# Altium footprint library DRV8701_DualMotorDriver V1.1.PcbLib: 84 footprints (part 4 of 6)
Each footprint in its own frame and in the unit in brackets; x right, y up, seen from the top. Pads: shape width x height; smd on the part's side, far side on the other; paste and mask are expansions set on the pad; w line width, h text height; cw(c..) or ccw(c..) is an arc to the next point about the centre after c.
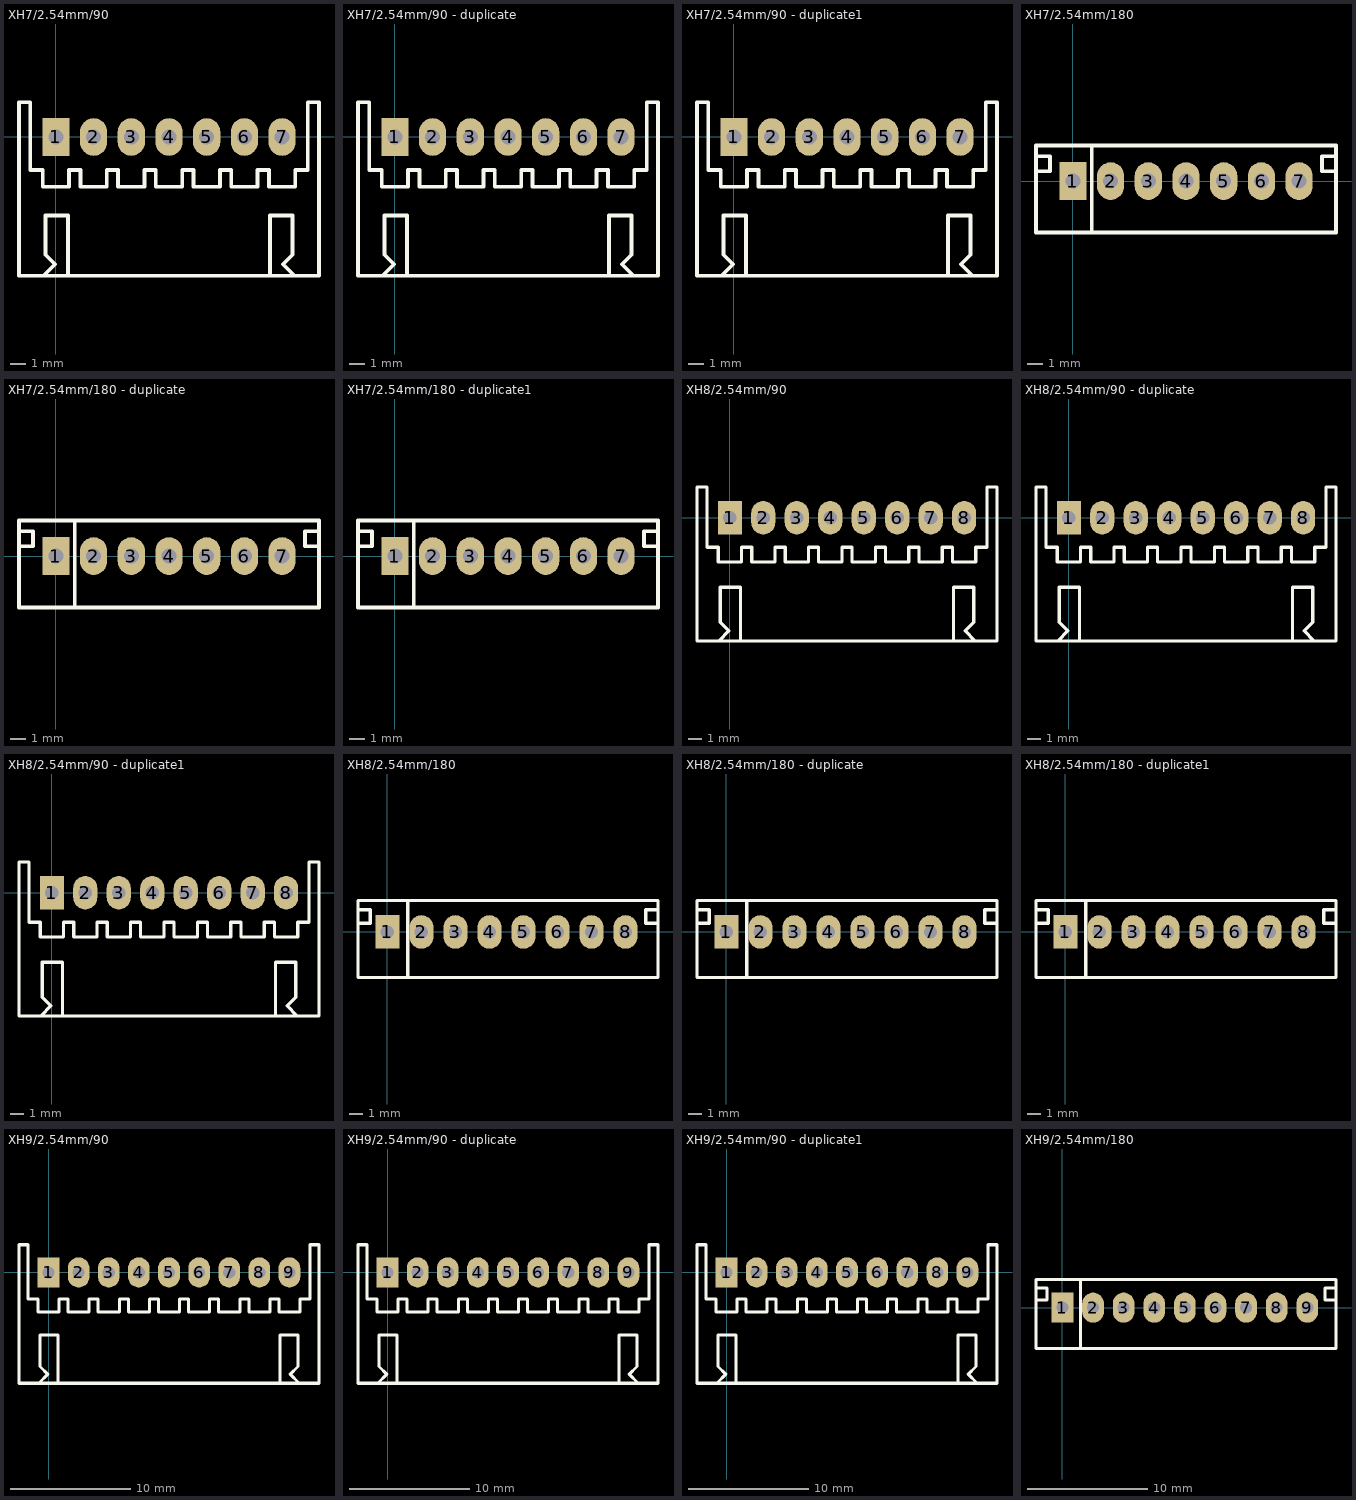
[diagram p3: the footprints below, top view; thin cyan lines are the x and y axes]

## XH7/2.54mm/90 [mm]
pads (7):
  rect 1.8x2.5 hole 1: 1(0,0)
  oval 1.8x2.5 hole 1: 2(2.5,0) 3(5,0) 4(7.5,0) 5(10,0) 6(12.5,0) 7(15,0)
Top Overlay:
  lines w0.254: -0.79,-9.172 -0.064,-8.445 -0.7,-7.809 -0.7,-5.2 0.8,-5.2 0.8,-9.2 ; 14.2,-9.2 14.2,-5.2 15.7,-5.2 15.7,-7.809 15.064,-8.445 15.79,-9.172 ; -2.45,-9.2 17.45,-9.2 17.45,2.3 16.7,2.3 16.7,-2.2 15.875,-2.2 15.875,-3.3 14.125,-3.3 14.125,-2.2 13.375,-2.2 13.375,-3.3 11.625,-3.3 11.625,-2.2 10.875,-2.2 10.875,-3.3 9.125,-3.3 9.125,-2.2 8.375,-2.2 8.375,-3.3 6.625,-3.3 6.625,-2.2 5.875,-2.2 5.875,-3.3 4.125,-3.3 4.125,-2.2 3.375,-2.2 3.375,-3.3 1.625,-3.3 1.625,-2.2 0.875,-2.2 0.875,-3.3 -0.875,-3.3 -0.875,-2.2 -1.7,-2.2 -1.7,2.3 -2.45,2.3 -2.45,-9.2
3D body "JST-S7B-XH-A.STEP": height 6.1, standoff -3.4, extent -2.45,-9.2 17.45,2.3

## XH7/2.54mm/90 - duplicate [mm]
pads (7):
  rect 1.8x2.5 hole 1: 1(0,0)
  oval 1.8x2.5 hole 1: 2(2.5,0) 3(5,0) 4(7.5,0) 5(10,0) 6(12.5,0) 7(15,0)
Top Overlay:
  lines w0.254: -0.79,-9.172 -0.064,-8.445 -0.7,-7.809 -0.7,-5.2 0.8,-5.2 0.8,-9.2 ; 14.2,-9.2 14.2,-5.2 15.7,-5.2 15.7,-7.809 15.064,-8.445 15.79,-9.172 ; -2.45,-9.2 17.45,-9.2 17.45,2.3 16.7,2.3 16.7,-2.2 15.875,-2.2 15.875,-3.3 14.125,-3.3 14.125,-2.2 13.375,-2.2 13.375,-3.3 11.625,-3.3 11.625,-2.2 10.875,-2.2 10.875,-3.3 9.125,-3.3 9.125,-2.2 8.375,-2.2 8.375,-3.3 6.625,-3.3 6.625,-2.2 5.875,-2.2 5.875,-3.3 4.125,-3.3 4.125,-2.2 3.375,-2.2 3.375,-3.3 1.625,-3.3 1.625,-2.2 0.875,-2.2 0.875,-3.3 -0.875,-3.3 -0.875,-2.2 -1.7,-2.2 -1.7,2.3 -2.45,2.3 -2.45,-9.2
3D body "JST-S7B-XH-A.STEP": height 6.1, standoff -3.4, extent -2.45,-9.2 17.45,2.3

## XH7/2.54mm/90 - duplicate1 [mm]
pads (7):
  rect 1.8x2.5 hole 1: 1(0,0)
  oval 1.8x2.5 hole 1: 2(2.5,0) 3(5,0) 4(7.5,0) 5(10,0) 6(12.5,0) 7(15,0)
Top Overlay:
  lines w0.254: -0.79,-9.172 -0.064,-8.445 -0.7,-7.809 -0.7,-5.2 0.8,-5.2 0.8,-9.2 ; 14.2,-9.2 14.2,-5.2 15.7,-5.2 15.7,-7.809 15.064,-8.445 15.79,-9.172 ; -2.45,-9.2 -2.45,2.3 -1.7,2.3 -1.7,-2.2 -0.875,-2.2 -0.875,-3.3 0.875,-3.3 0.875,-2.2 1.625,-2.2 1.625,-3.3 3.375,-3.3 3.375,-2.2 4.125,-2.2 4.125,-3.3 5.875,-3.3 5.875,-2.2 6.625,-2.2 6.625,-3.3 8.375,-3.3 8.375,-2.2 9.125,-2.2 9.125,-3.3 10.875,-3.3 10.875,-2.2 11.625,-2.2 11.625,-3.3 13.375,-3.3 13.375,-2.2 14.125,-2.2 14.125,-3.3 15.875,-3.3 15.875,-2.2 16.7,-2.2 16.7,2.3 17.45,2.3 17.45,-9.2 -2.45,-9.2
3D body "JST-S7B-XH-A.STEP": height 6.1, standoff -3.4, extent -2.45,-9.2 17.45,2.3

## XH7/2.54mm/180 [mm]
pads (7):
  rect 1.8x2.5 hole 1: 1(0,0)
  oval 1.8x2.5 hole 1: 2(2.5,0) 3(5,0) 4(7.5,0) 5(10,0) 6(12.5,0) 7(15,0)
Top Overlay:
  lines w0.254: -2.45,0.65 -1.524,0.65 -1.524,1.65 -2.45,1.65 ; 1.25,-3.4 1.25,2.35 ; 17.45,0.65 16.524,0.65 16.524,1.65 17.45,1.65 ; -2.45,-3.4 -2.45,2.35 17.45,2.35 17.45,-3.4 -2.45,-3.4
3D body "JST-B7B-XH-A.STEP": height 7, standoff -3.4, extent -2.45,-3.4 17.45,2.35

## XH7/2.54mm/180 - duplicate [mm]
pads (7):
  rect 1.8x2.5 hole 1: 1(0,0)
  oval 1.8x2.5 hole 1: 2(2.5,0) 3(5,0) 4(7.5,0) 5(10,0) 6(12.5,0) 7(15,0)
Top Overlay:
  lines w0.254: -2.45,0.65 -1.524,0.65 -1.524,1.65 -2.45,1.65 ; 1.25,-3.4 1.25,2.35 ; 17.45,0.65 16.524,0.65 16.524,1.65 17.45,1.65 ; -2.45,-3.4 -2.45,2.35 17.45,2.35 17.45,-3.4 -2.45,-3.4
3D body "JST-B7B-XH-A.STEP": height 7, standoff -3.4, extent -2.45,-3.4 17.45,2.35

## XH7/2.54mm/180 - duplicate1 [mm]
pads (7):
  rect 1.8x2.5 hole 1: 1(0,0)
  oval 1.8x2.5 hole 1: 2(2.5,0) 3(5,0) 4(7.5,0) 5(10,0) 6(12.5,0) 7(15,0)
Top Overlay:
  lines w0.254: -2.45,0.65 -1.524,0.65 -1.524,1.65 -2.45,1.65 ; 1.25,-3.4 1.25,2.35 ; 17.45,0.65 16.524,0.65 16.524,1.65 17.45,1.65 ; -2.45,-3.4 17.45,-3.4 17.45,2.35 -2.45,2.35 -2.45,-3.4
3D body "JST-B7B-XH-A.STEP": height 7, standoff -3.4, extent -2.45,-3.4 17.45,2.35

## XH8/2.54mm/90 [mm]
pads (8):
  rect 1.8x2.5 hole 1: 1(0,0)
  oval 1.8x2.5 hole 1: 2(2.5,0) 3(5,0) 4(7.5,0) 5(10,0) 6(12.5,0) 7(15,0) 8(17.5,0)
Top Overlay:
  lines w0.254: -0.79,-9.172 -0.064,-8.445 -0.7,-7.809 -0.7,-5.2 0.8,-5.2 0.8,-9.2 ; 16.7,-9.2 16.7,-5.2 18.2,-5.2 18.2,-7.809 17.564,-8.445 18.29,-9.172 ; -2.45,-9.2 19.95,-9.2 19.95,2.3 19.2,2.3 19.2,-2.2 18.375,-2.2 18.375,-3.3 16.625,-3.3 16.625,-2.2 15.875,-2.2 15.875,-3.3 14.125,-3.3 14.125,-2.2 13.375,-2.2 13.375,-3.3 11.625,-3.3 11.625,-2.2 10.875,-2.2 10.875,-3.3 9.125,-3.3 9.125,-2.2 8.375,-2.2 8.375,-3.3 6.625,-3.3 6.625,-2.2 5.875,-2.2 5.875,-3.3 4.125,-3.3 4.125,-2.2 3.375,-2.2 3.375,-3.3 1.625,-3.3 1.625,-2.2 0.875,-2.2 0.875,-3.3 -0.875,-3.3 -0.875,-2.2 -1.7,-2.2 -1.7,2.3 -2.45,2.3 -2.45,-9.2
3D body "JST-S8B-XH-A.STEP": height 6.1, standoff -3.4, extent -2.45,-9.2 19.95,2.3

## XH8/2.54mm/90 - duplicate [mm]
pads (8):
  rect 1.8x2.5 hole 1: 1(0,0)
  oval 1.8x2.5 hole 1: 2(2.5,0) 3(5,0) 4(7.5,0) 5(10,0) 6(12.5,0) 7(15,0) 8(17.5,0)
Top Overlay:
  lines w0.254: -0.79,-9.172 -0.064,-8.445 -0.7,-7.809 -0.7,-5.2 0.8,-5.2 0.8,-9.2 ; 16.7,-9.2 16.7,-5.2 18.2,-5.2 18.2,-7.809 17.564,-8.445 18.29,-9.172 ; -2.45,-9.2 19.95,-9.2 19.95,2.3 19.2,2.3 19.2,-2.2 18.375,-2.2 18.375,-3.3 16.625,-3.3 16.625,-2.2 15.875,-2.2 15.875,-3.3 14.125,-3.3 14.125,-2.2 13.375,-2.2 13.375,-3.3 11.625,-3.3 11.625,-2.2 10.875,-2.2 10.875,-3.3 9.125,-3.3 9.125,-2.2 8.375,-2.2 8.375,-3.3 6.625,-3.3 6.625,-2.2 5.875,-2.2 5.875,-3.3 4.125,-3.3 4.125,-2.2 3.375,-2.2 3.375,-3.3 1.625,-3.3 1.625,-2.2 0.875,-2.2 0.875,-3.3 -0.875,-3.3 -0.875,-2.2 -1.7,-2.2 -1.7,2.3 -2.45,2.3 -2.45,-9.2
3D body "JST-S8B-XH-A.STEP": height 6.1, standoff -3.4, extent -2.45,-9.2 19.95,2.3

## XH8/2.54mm/90 - duplicate1 [mm]
pads (8):
  rect 1.8x2.5 hole 1: 1(0,0)
  oval 1.8x2.5 hole 1: 2(2.5,0) 3(5,0) 4(7.5,0) 5(10,0) 6(12.5,0) 7(15,0) 8(17.5,0)
Top Overlay:
  lines w0.254: -0.79,-9.172 -0.064,-8.445 -0.7,-7.809 -0.7,-5.2 0.8,-5.2 0.8,-9.2 ; 16.7,-9.2 16.7,-5.2 18.2,-5.2 18.2,-7.809 17.564,-8.445 18.29,-9.172 ; -2.45,-9.2 -2.45,2.3 -1.7,2.3 -1.7,-2.2 -0.875,-2.2 -0.875,-3.3 0.875,-3.3 0.875,-2.2 1.625,-2.2 1.625,-3.3 3.375,-3.3 3.375,-2.2 4.125,-2.2 4.125,-3.3 5.875,-3.3 5.875,-2.2 6.625,-2.2 6.625,-3.3 8.375,-3.3 8.375,-2.2 9.125,-2.2 9.125,-3.3 10.875,-3.3 10.875,-2.2 11.625,-2.2 11.625,-3.3 13.375,-3.3 13.375,-2.2 14.125,-2.2 14.125,-3.3 15.875,-3.3 15.875,-2.2 16.625,-2.2 16.625,-3.3 18.375,-3.3 18.375,-2.2 19.2,-2.2 19.2,2.3 19.95,2.3 19.95,-9.2 -2.45,-9.2
3D body "JST-S8B-XH-A.STEP": height 6.1, standoff -3.4, extent -2.45,-9.2 19.95,2.3

## XH8/2.54mm/180 [mm]
pads (8):
  rect 1.8x2.5 hole 1: 1(0,0)
  oval 1.8x2.5 hole 1: 2(2.54,0) 3(5.08,0) 4(7.62,0) 5(10.16,0) 6(12.7,0) 7(15.24,0) 8(17.78,0)
Top Overlay:
  lines w0.254: -2.196,0.65 -1.27,0.65 -1.27,1.65 -2.196,1.65 ; 1.504,-3.4 1.504,2.35 ; 20.204,0.65 19.278,0.65 19.278,1.65 20.204,1.65 ; -2.196,-3.4 20.204,-3.4 20.204,2.35 -2.196,2.35 -2.196,-3.4
3D body "JST-B8B-XH-A.STEP": height 7, standoff -3.4, extent -2.196,-3.4 20.204,2.35

## XH8/2.54mm/180 - duplicate [mm]
pads (8):
  rect 1.8x2.5 hole 1: 1(0,0)
  oval 1.8x2.5 hole 1: 2(2.54,0) 3(5.08,0) 4(7.62,0) 5(10.16,0) 6(12.7,0) 7(15.24,0) 8(17.78,0)
Top Overlay:
  lines w0.254: -2.196,0.65 -1.27,0.65 -1.27,1.65 -2.196,1.65 ; 1.504,-3.4 1.504,2.35 ; 20.204,0.65 19.278,0.65 19.278,1.65 20.204,1.65 ; -2.196,-3.4 20.204,-3.4 20.204,2.35 -2.196,2.35 -2.196,-3.4
3D body "JST-B8B-XH-A.STEP": height 7, standoff -3.4, extent -2.196,-3.4 20.204,2.35

## XH8/2.54mm/180 - duplicate1 [mm]
pads (8):
  rect 1.8x2.5 hole 1: 1(0,0)
  oval 1.8x2.5 hole 1: 2(2.54,0) 3(5.08,0) 4(7.62,0) 5(10.16,0) 6(12.7,0) 7(15.24,0) 8(17.78,0)
Top Overlay:
  lines w0.254: -2.196,0.65 -1.27,0.65 -1.27,1.65 -2.196,1.65 ; 1.504,-3.4 1.504,2.35 ; 20.204,0.65 19.278,0.65 19.278,1.65 20.204,1.65 ; -2.196,-3.4 -2.196,2.35 20.204,2.35 20.204,-3.4 -2.196,-3.4
3D body "JST-B8B-XH-A.STEP": height 7, standoff -3.4, extent -2.196,-3.4 20.204,2.35

## XH9/2.54mm/90 [mm]
pads (9):
  rect 1.8x2.5 hole 1: 1(0,0)
  oval 1.8x2.5 hole 1: 2(2.5,0) 3(5,0) 4(7.5,0) 5(10,0) 6(12.5,0) 7(15,0) 8(17.5,0) 9(20,0)
Top Overlay:
  lines w0.254: -0.79,-9.172 -0.064,-8.445 -0.7,-7.809 -0.7,-5.2 0.8,-5.2 0.8,-9.2 ; 19.2,-9.2 19.2,-5.2 20.7,-5.2 20.7,-7.809 20.064,-8.445 20.79,-9.172 ; -2.45,-9.2 -2.45,2.3 -1.7,2.3 -1.7,-2.2 -0.875,-2.2 -0.875,-3.3 0.875,-3.3 0.875,-2.2 1.625,-2.2 1.625,-3.3 3.375,-3.3 3.375,-2.2 4.125,-2.2 4.125,-3.3 5.875,-3.3 5.875,-2.2 6.625,-2.2 6.625,-3.3 8.375,-3.3 8.375,-2.2 9.125,-2.2 9.125,-3.3 10.875,-3.3 10.875,-2.2 11.625,-2.2 11.625,-3.3 13.375,-3.3 13.375,-2.2 14.125,-2.2 14.125,-3.3 15.875,-3.3 15.875,-2.2 16.625,-2.2 16.625,-3.3 18.375,-3.3 18.375,-2.2 19.125,-2.2 19.125,-3.3 20.875,-3.3 20.875,-2.2 21.7,-2.2 21.7,2.3 22.45,2.3 22.45,-9.2 -2.45,-9.2
3D body "JST-S9B-XH-A.STEP": height 6.1, standoff -3.4, extent -2.45,-9.2 22.45,2.3

## XH9/2.54mm/90 - duplicate [mm]
pads (9):
  rect 1.8x2.5 hole 1: 1(0,0)
  oval 1.8x2.5 hole 1: 2(2.5,0) 3(5,0) 4(7.5,0) 5(10,0) 6(12.5,0) 7(15,0) 8(17.5,0) 9(20,0)
Top Overlay:
  lines w0.254: -0.79,-9.172 -0.064,-8.445 -0.7,-7.809 -0.7,-5.2 0.8,-5.2 0.8,-9.2 ; 19.2,-9.2 19.2,-5.2 20.7,-5.2 20.7,-7.809 20.064,-8.445 20.79,-9.172 ; -2.45,-9.2 -2.45,2.3 -1.7,2.3 -1.7,-2.2 -0.875,-2.2 -0.875,-3.3 0.875,-3.3 0.875,-2.2 1.625,-2.2 1.625,-3.3 3.375,-3.3 3.375,-2.2 4.125,-2.2 4.125,-3.3 5.875,-3.3 5.875,-2.2 6.625,-2.2 6.625,-3.3 8.375,-3.3 8.375,-2.2 9.125,-2.2 9.125,-3.3 10.875,-3.3 10.875,-2.2 11.625,-2.2 11.625,-3.3 13.375,-3.3 13.375,-2.2 14.125,-2.2 14.125,-3.3 15.875,-3.3 15.875,-2.2 16.625,-2.2 16.625,-3.3 18.375,-3.3 18.375,-2.2 19.125,-2.2 19.125,-3.3 20.875,-3.3 20.875,-2.2 21.7,-2.2 21.7,2.3 22.45,2.3 22.45,-9.2 -2.45,-9.2
3D body "JST-S9B-XH-A.STEP": height 6.1, standoff -3.4, extent -2.45,-9.2 22.45,2.3

## XH9/2.54mm/90 - duplicate1 [mm]
pads (9):
  rect 1.8x2.5 hole 1: 1(0,0)
  oval 1.8x2.5 hole 1: 2(2.5,0) 3(5,0) 4(7.5,0) 5(10,0) 6(12.5,0) 7(15,0) 8(17.5,0) 9(20,0)
Top Overlay:
  lines w0.254: -0.79,-9.172 -0.064,-8.445 -0.7,-7.809 -0.7,-5.2 0.8,-5.2 0.8,-9.2 ; 19.2,-9.2 19.2,-5.2 20.7,-5.2 20.7,-7.809 20.064,-8.445 20.79,-9.172 ; -2.45,-9.2 22.45,-9.2 22.45,2.3 21.7,2.3 21.7,-2.2 20.875,-2.2 20.875,-3.3 19.125,-3.3 19.125,-2.2 18.375,-2.2 18.375,-3.3 16.625,-3.3 16.625,-2.2 15.875,-2.2 15.875,-3.3 14.125,-3.3 14.125,-2.2 13.375,-2.2 13.375,-3.3 11.625,-3.3 11.625,-2.2 10.875,-2.2 10.875,-3.3 9.125,-3.3 9.125,-2.2 8.375,-2.2 8.375,-3.3 6.625,-3.3 6.625,-2.2 5.875,-2.2 5.875,-3.3 4.125,-3.3 4.125,-2.2 3.375,-2.2 3.375,-3.3 1.625,-3.3 1.625,-2.2 0.875,-2.2 0.875,-3.3 -0.875,-3.3 -0.875,-2.2 -1.7,-2.2 -1.7,2.3 -2.45,2.3 -2.45,-9.2
3D body "JST-S9B-XH-A.STEP": height 6.1, standoff -3.4, extent -2.45,-9.2 22.45,2.3

## XH9/2.54mm/180 [mm]
pads (9):
  rect 1.8x2.5 hole 1: 1(0,0)
  oval 1.8x2.5 hole 1: 2(2.54,0) 3(5.08,0) 4(7.62,0) 5(10.16,0) 6(12.7,0) 7(15.24,0) 8(17.78,0) 9(20.32,0)
Top Overlay:
  lines w0.254: -2.196,0.65 -1.27,0.65 -1.27,1.65 -2.196,1.65 ; 1.504,-3.4 1.504,2.35 ; 22.704,0.65 21.778,0.65 21.778,1.65 22.704,1.65 ; -2.196,-3.4 -2.196,2.35 22.704,2.35 22.704,-3.4 -2.196,-3.4
3D body "JST-B9B-XH-A.STEP": height 7, standoff -3.4, extent -2.196,-3.4 22.704,2.35